# Altium schematic symbol library Biblioteki.schlib: 18 symbols
Pins are listed as number, name and electrical type; pins without a type are passive.

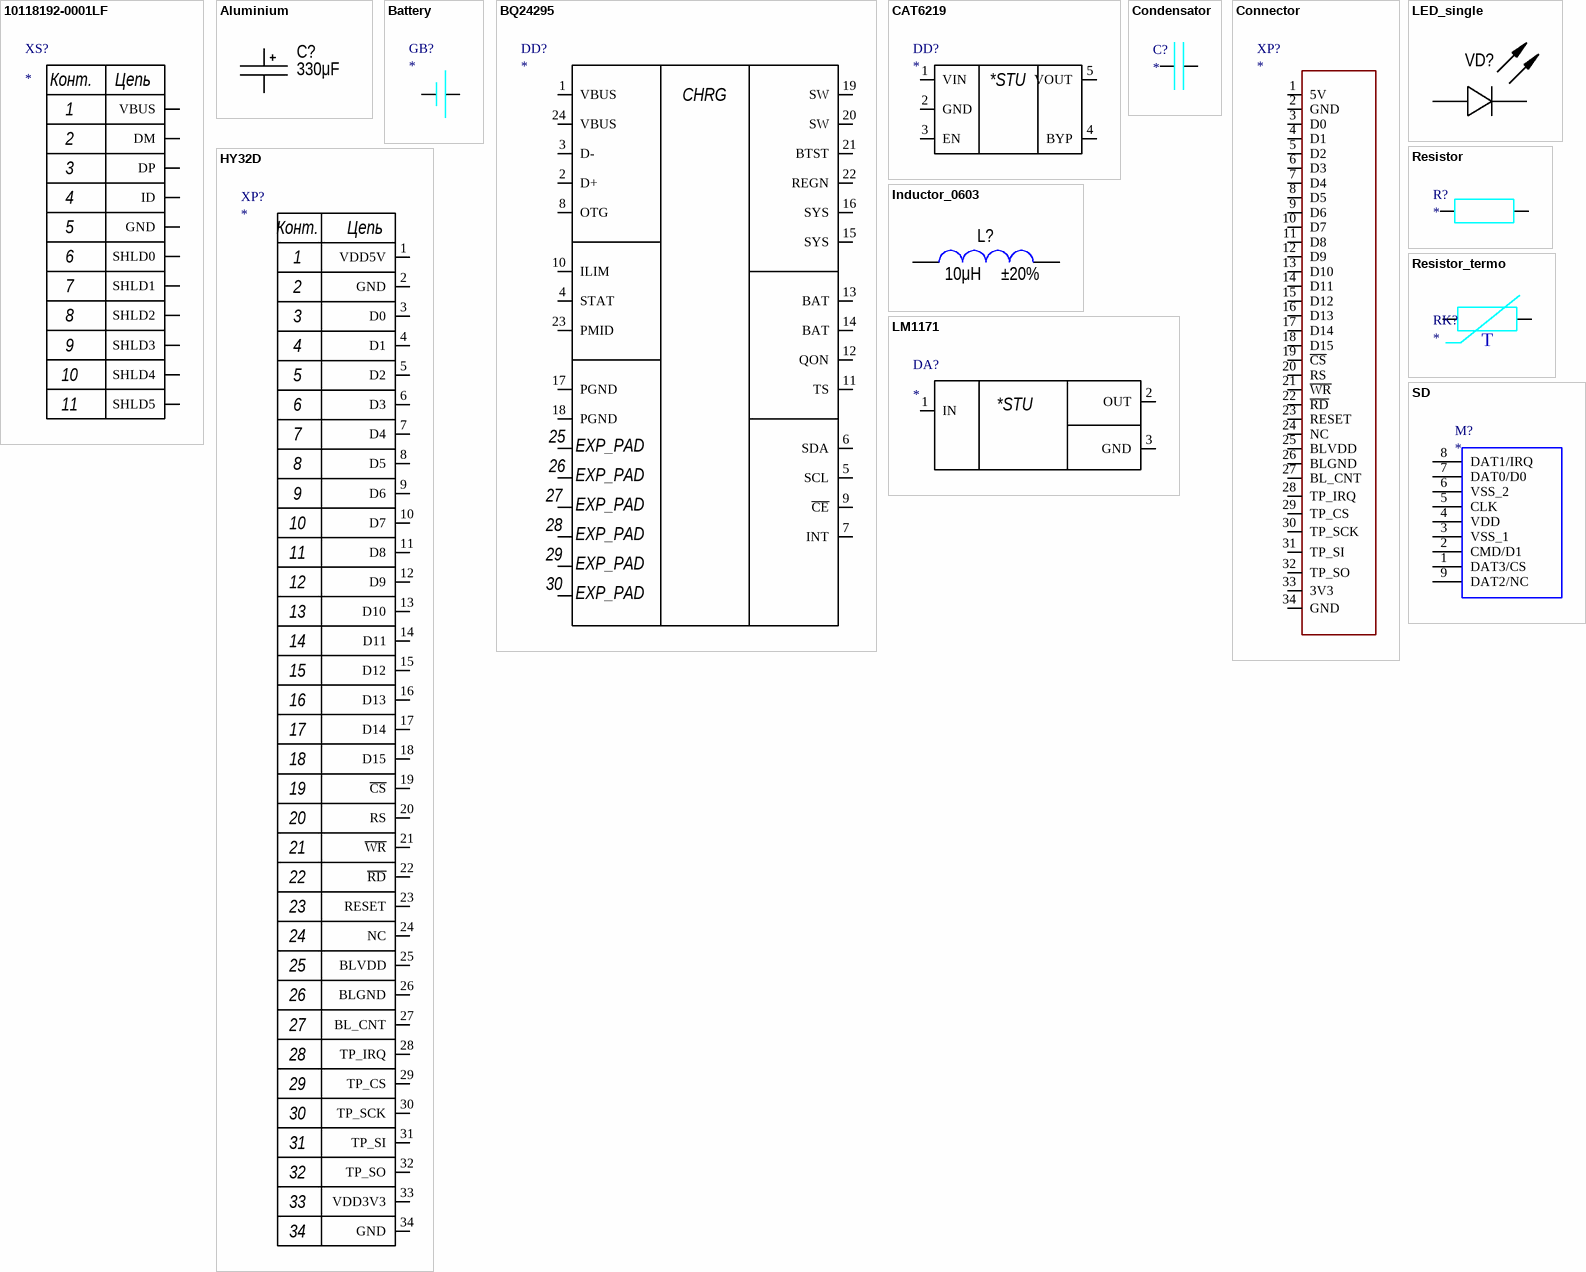
[diagram p0: symbols 10118192-0001LF to SD]

## 10118192-0001LF
designator XS?
USB - micro B USB 2.0 Receptacle Connector 5 Position Surface Mount, Right Angle; MP: 10118192-0001LF; MF: Amphenol ICC; Availability: Unavailable; Price: None; Package: None; Value: *; SnapEDA_Link: https://www.snapeda.com/parts/10118192-0001LF/Amphenol%20FCI/view-part/2897676/?ref=snap
footprint AMPHENOL_10118192-0001LF
pins: 1 VBUS, 2 DM, 3 DP, 4 ID, 5 GND, SH0 SHLD0, SH1 SHLD1, SH2 SHLD2, SH3 SHLD3, SH4 SHLD4, SH5 SHLD5
text: Конт.; Цепь; 6; 7; 8; 9; 10; 11

## Aluminium
designator C?  value 330μF
Manufacturer: Wurth; PartNumber: 860080475013; ValueManufacturerPartNumber: Aluminium capacitor, 330μF, 25V, ±20%, 54mOhm, 14x10x5 mm, -55...+105°C; TypeCapacitor: Aluminium capacitor; Tolerance: ±20%; Impedance: 54mOhm; Voltage: 25V; Package: 14x10x5 mm; HelpURL: https://www.digikey.com/product-detail/en/wurth-electronics-inc/860080475013/732-9029-1-ND/5728972; Temperature: -55...+105°C
footprint CAP: TANTAL-A
pins: 1 (power), 2 (power)

## Battery
designator GB?
footprint Battery
pins: 1, 2

## BQ24295
designator DD?
footprint BQ24295 (QFN, 24-Leads, Body 4,00x4,00mm, Pitch 0,50mm, Thermal Pad 3,00x3,00mm, IPC Medium Density)
pins: 1 VBUS, 2 D+, 3 D-, 4 STAT, 5 SCL, 6 SDA, 7 INT, 8 OTG, 9 ~{CE}, 10 ILIM, 11 TS, 12 QON, 13 BAT, 14 BAT, 15 SYS, 16 SYS, 17 PGND, 18 PGND, 19 SW, 20 SW, 21 BTST, 22 REGN, 23 PMID, 24 VBUS
text: CHRG; 25; EXP_PAD; 26; 27; 28; 29; 30

## CAT6219
designator DD?
footprint CAT6219 (SOT23, 5-Leads, Body 2,90x2,80mm, Pitch 0,95mm, IPC Medium Density)
pins: 1 VIN, 2 GND, 3 EN, 4 BYP, 5 VOUT
text: *STU

## Condensator
designator C?
footprint 0805 (Capacitor) (Chip Capacitor, 2-Leads, Body 2,00x1,25mm, IPC Medium Density)
pins: 1, 2

## Connector
designator XP?
footprint Connector
pins: 1 5V, 2 GND, 3 D0, 4 D1, 5 D2, 6 D3, 7 D4, 8 D5, 9 D6, 10 D7, 11 D8, 12 D9, 13 D10, 14 D11, 15 D12, 16 D13, 17 D14, 18 D15, 19 ~{CS}, 20 RS, 21 ~{WR}, 22 ~{RD}, 23 RESET, 24 NC, 25 BLVDD, 26 BLGND, 27 BL_CNT, 28 TP_IRQ, 29 TP_CS, 30 TP_SCK, 31 TP_SI, 32 TP_SO, 33 3V3, 34 GND

## HY32D
designator XP?
footprint HY32D
pins: 1 VDD5V, 2 GND, 3 D0, 4 D1, 5 D2, 6 D3, 7 D4, 8 D5, 9 D6, 10 D7, 11 D8, 12 D9, 13 D10, 14 D11, 15 D12, 16 D13, 17 D14, 18 D15, 19 ~{CS}, 20 RS, 21 ~{WR}, 22 ~{RD}, 23 RESET, 24 NC, 25 BLVDD, 26 BLGND, 27 BL_CNT, 28 TP_IRQ, 29 TP_CS, 30 TP_SCK, 31 TP_SI, 32 TP_SO, 33 VDD3V3, 34 GND
text: Конт.; Цепь

## Inductor_0603
designator L?  value 10μH  Tolerance: ±20%
Manufacturer: Murata Electronics; PartNumber: LQM18FN100M00D; ValueManufacturerPartNumber: Fixed inductor, 10μH, ±20%, 0603, 50mA, -55...+125°C; TypeInductor: Fixed inductor; MaxCurrent: 50mA; Package: 0603; HelpURL: https://www.digikey.com/product-detail/en/murata-electronics-north-america/LQM18FN100M00D/490-4025-1-ND/1016285; Temperature: -55...+125°C
footprint IND: 0603
pins: 1, 2

## LED_single
designator VD?
ValueManufacturerPartNumber: LED, Green, *, *, *, -55...+150°C; TypeDiode: LED; ColorParameter: Green; Manufacturer: *; Package: *; HelpURL: *; Temperature: -55...+150°C; Current: *; VoltageDrop: *; PartNumber: *
footprint LED: 0402G
pins: 1 A, 2 C

## LM1171
designator DA?
Linear Voltage Regulator IC 1 Output 800mA SOT-223-4; MP: LM1171; MF: Texas Instruments; SnapEDA_Link: https://www.snapeda.com/parts/LM1117/Texas%20Instruments/view-part/555980/?ref=snap; Price: None; Value: *; Availability: Unavailable; Package: SOT-223-4 Texas Instruments
footprint LM1171
pins: 1 IN, 2 OUT, 3 GND
text: *STU

## Resistor
designator R?
footprint 0805 (Resistor) (Chip Resistor, 2-Leads, Body 2,10x1,30mm, IPC Medium Density)
pins: 1, 2

## Resistor_termo
designator RK?
footprint 0805 (Resistor) (Chip Resistor, 2-Leads, Body 2,10x1,30mm, IPC Medium Density)
pins: 1, 2
text: T

## SD
designator M?
footprint SD_card_reader
pins: 1 DAT3/CS "CD/DAT3", 2 CMD/D1, 3 VSS_1 "VSS1", 4 VDD, 5 CLK "CLK/SCLK", 6 VSS_2 "VSS2", 7 DAT0/D0 "DAT0", 8 DAT1/IRQ "DAT1", 9 DAT2/NC "DAT3"

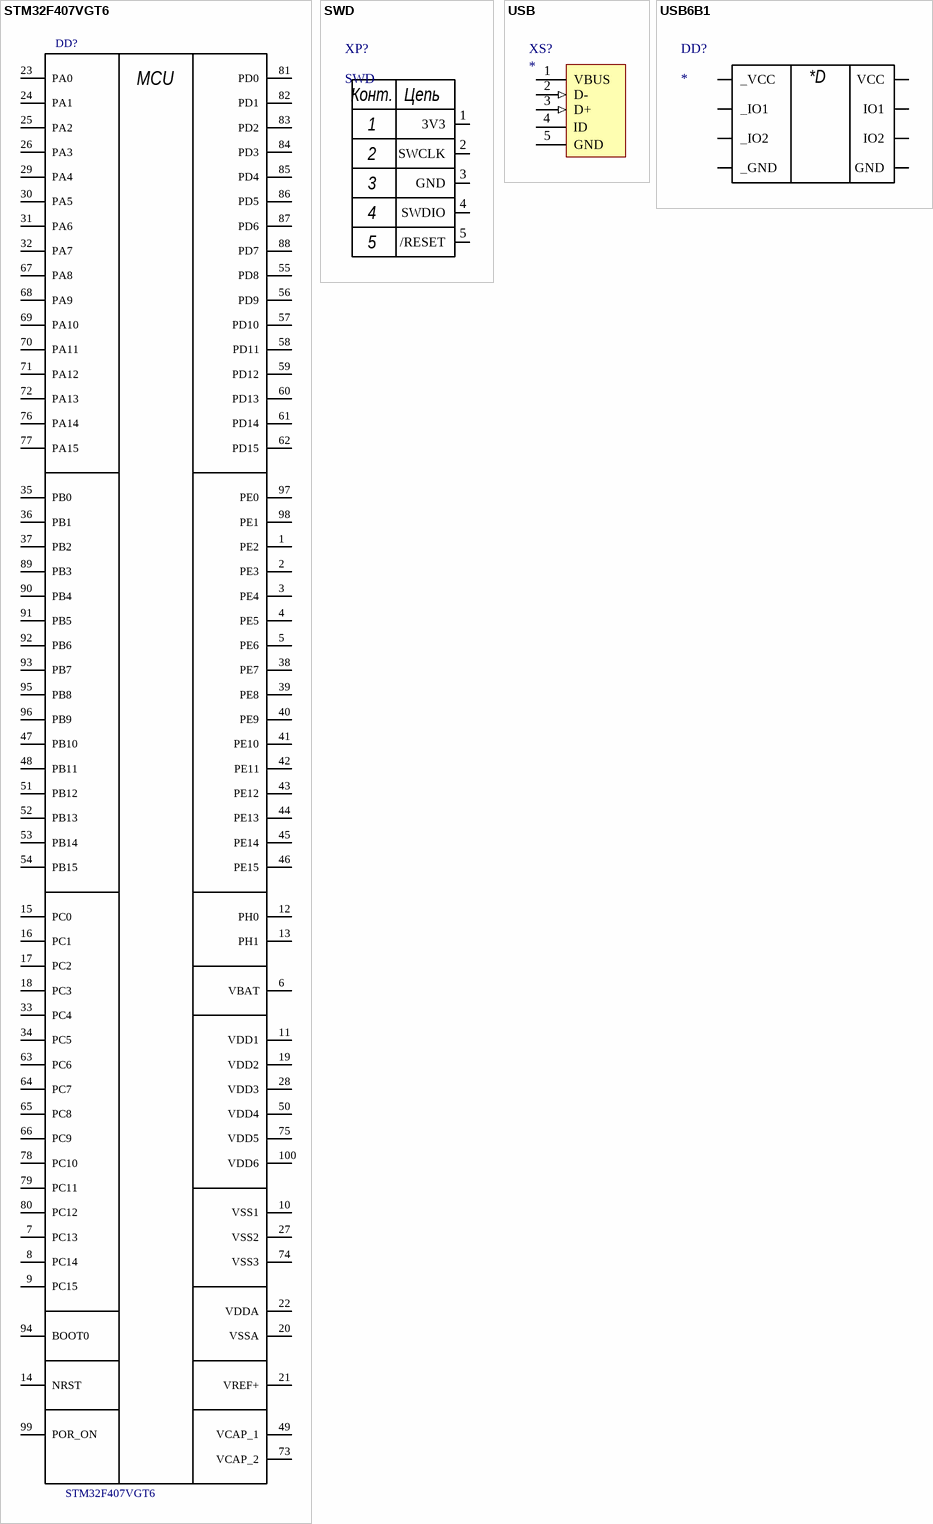
[diagram p1: symbols STM32F407VGT6 to USB6B1]

## STM32F407VGT6
designator DD?
Manufacturer: STMicroelectronics; Model: STM32F407VGT6; HelpURL: https://www.digikey.com/product-detail/en/stmicroelectronics/STM32F407VGT6/497-11605-ND/2747117; Case: 100-LQFP
footprint SecondOptionSTM32F407 (TSQFP, 100-Leads, Body 14,00x14,00mm, Pitch 0,50mm, IPC Medium Density)
pins: 1 PE2, 2 PE3, 3 PE4, 4 PE5, 5 PE6, 6 VBAT, 7 PC13, 8 PC14, 9 PC15, 10 VSS1, 11 VDD1, 12 PH0, 13 PH1, 14 NRST, 15 PC0, 16 PC1, 17 PC2, 18 PC3, 19 VDD2, 20 VSSA, 21 VREF+, 22 VDDA, 23 PA0, 24 PA1, 25 PA2, 26 PA3, 27 VSS2, 28 VDD3, 29 PA4, 30 PA5, 31 PA6, 32 PA7, 33 PC4, 34 PC5, 35 PB0, 36 PB1, 37 PB2, 38 PE7, 39 PE8, 40 PE9, 41 PE10, 42 PE11, 43 PE12, 44 PE13, 45 PE14, 46 PE15, 47 PB10, 48 PB11, 49 VCAP_1, 50 VDD4, 51 PB12, 52 PB13, 53 PB14, 54 PB15, 55 PD8, 56 PD9, 57 PD10, 58 PD11, 59 PD12, 60 PD13, 61 PD14, 62 PD15, 63 PC6, 64 PC7, 65 PC8, 66 PC9, 67 PA8, 68 PA9, 69 PA10, 70 PA11, 71 PA12, 72 PA13, 73 VCAP_2, 74 VSS3, 75 VDD5, 76 PA14, 77 PA15, 78 PC10, 79 PC11, 80 PC12, 81 PD0, 82 PD1, 83 PD2, 84 PD3, 85 PD4, 86 PD5, 87 PD6, 88 PD7, 89 PB3, 90 PB4, 91 PB5, 92 PB6, 93 PB7, 94 BOOT0, 95 PB8, 96 PB9, 97 PE0, 98 PE1, 99 POR_ON, 100 VDD6
text: MCU

## SWD
designator XP?
footprint SWD
pins: 1 3V3, 2 SWCLK, 3 GND, 4 SWDIO, 5 /RESET
text: Конт.; Цепь

## USB
designator XS?
footprint USB
pins: 1 VBUS (power) "Power", 2 D- (in) "-DATA", 3 D+ (in) "+DATA", 4 ID, 5 GND (power) "Ground"

## USB6B1
designator DD?
Clamp Ipp Tvs Diode Surface Mount 8-SO; MF: STMicroelectronics; MP: USB6B1; Package: SOIC-8 STMicroelectronics; Value: *; Availability: Unavailable; SnapEDA_Link: https://www.snapeda.com/parts/USB6B1/STMicroelectronics/view-part/51146/?ref=snap; Price: None
footprint SO08
pins: 1 _VCC (power), 2 _IO1 (power), 3 _IO2 (power), 4 _GND (power), 5 GND (power), 6 IO2 (power), 7 IO1 (power), 8 VCC (power)
text: *D